# EAGLE library part AHT10 (library SamacSys_Parts)
AHT10 Integrated temperature and humidity sensor Source: Datasheet <https://datasheet.lcsc.com/szlcsc/1901291508_Aosong-Guangzhou-Elec-AHT10_C368909.pdf>
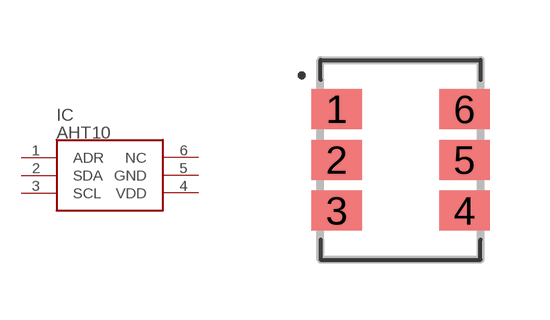
[diagram p4: symbol with the pads of AHT10; footprint AHT10]

Designator prefix IC

## AHT10 (DESCRIPTION: AHT10 Integrated temperature and humidity sensor; HEIGHT: 1.7mm; MANUFACTURER_NAME: Aosong (Guangzhou) Elec; MANUFACTURER_PART_NUMBER: AHT10)  [AHT10]
1  ADR
2  SDA
3  SCL
4  VDD
5  GND
6  NC  nc

## Footprint AHT10 (pad centres in mm)
6 SMD
smd 1.27 x 1: 1 -1.6,1.27; 2 -1.6,0; 3 -1.6,-1.27; 4 1.6,-1.27; 5 1.6,0; 6 1.6,1.27